# Altium footprint library Lib Marius.PcbLib: 393 footprints (part 4 of 25)
Each footprint in its own frame and in the unit in brackets; x right, y up, seen from the top. Pads: shape width x height; smd on the part's side, far side on the other; paste and mask are expansions set on the pad; w line width, h text height; cw(c..) or ccw(c..) is an arc to the next point about the centre after c.
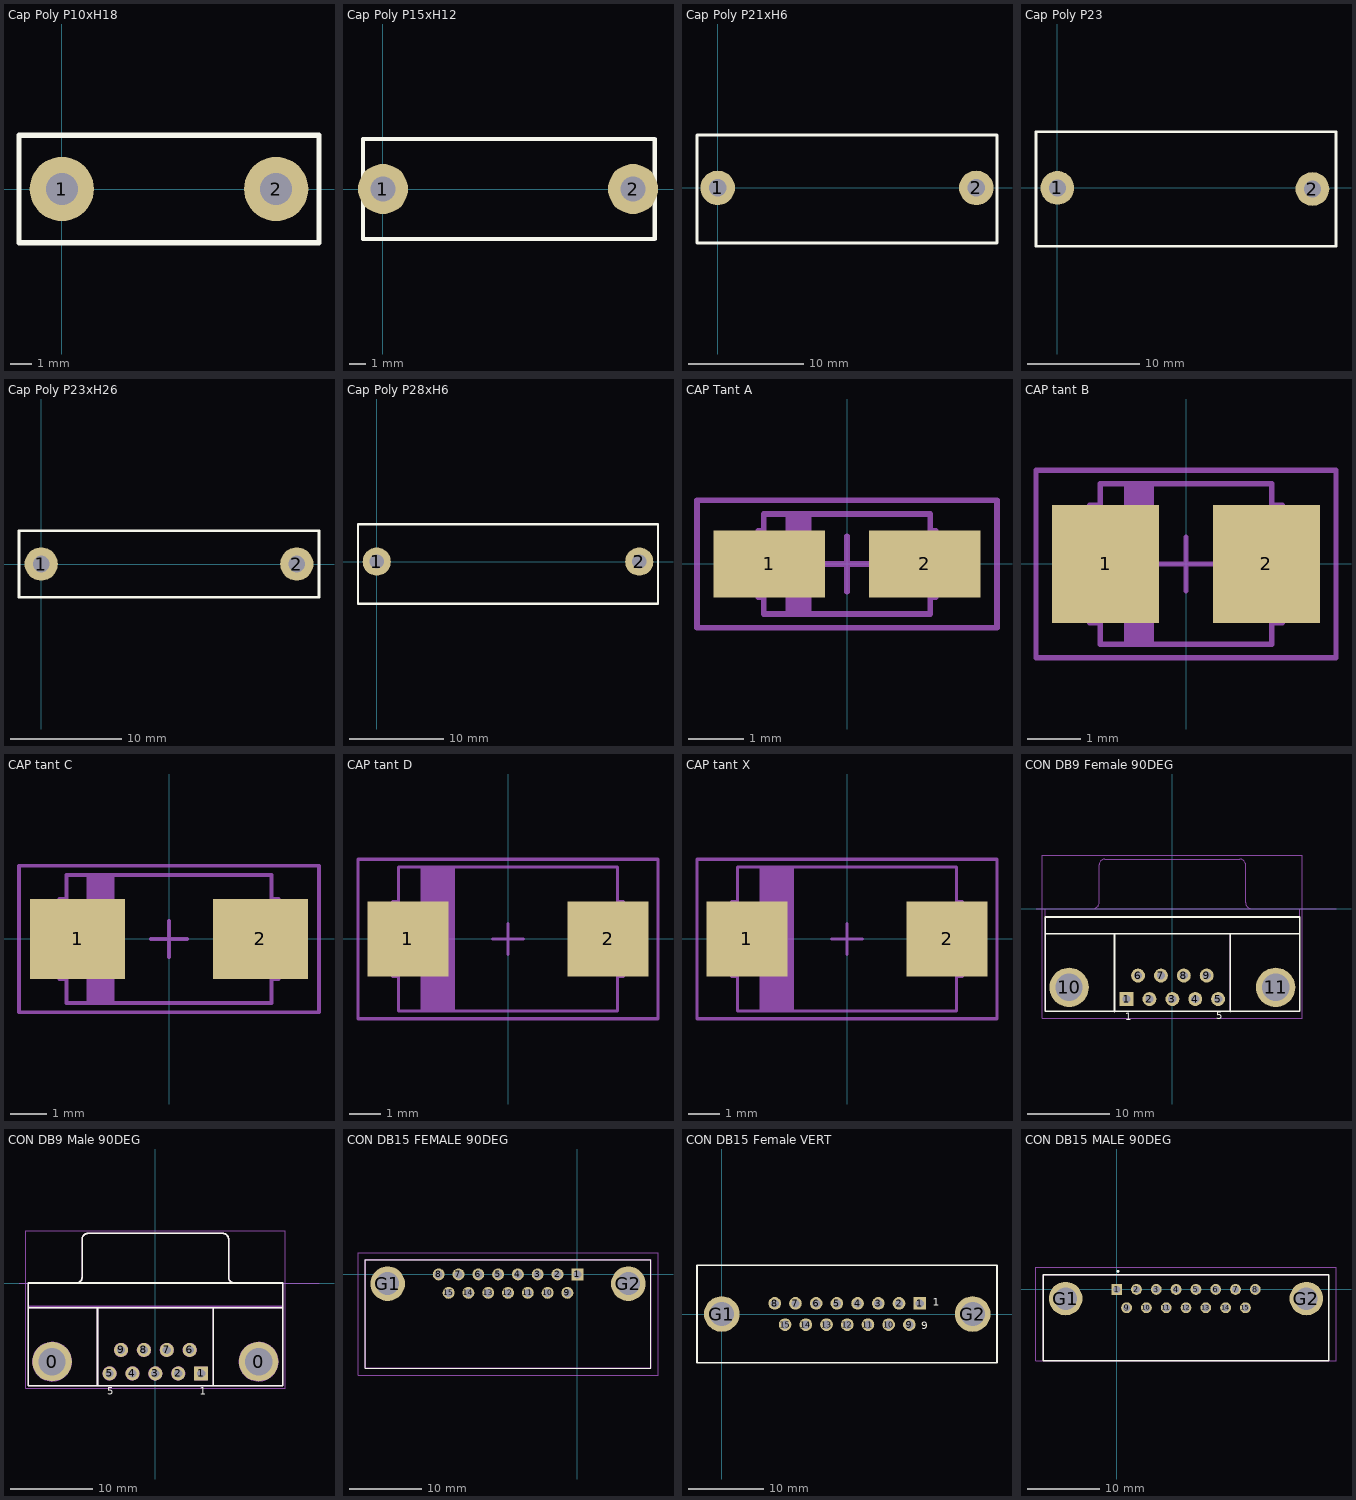
[diagram p3: the footprints below, top view; thin cyan lines are the x and y axes]

## Cap Poly P10xH18 [mm] "Capacitor Polyester"
height 5.46
pads (2):
  round 3 hole 1.5: 1(0,0) 2(10,0)
Top Overlay:
  lines w0.254: -2,-2.5 -2,2.5 12,2.5 12,-2.5 -2,-2.5
3D body "Cap Poly 14Lx9H.step": height 11.92, standoff -2, extent -1.375,-2.7 11.375,2.051

## Cap Poly P15xH12 [mm] "Capacitor Polyester 1uF 250V"
height 12
pads (2):
  round 3 hole 1.5: 1(0,0) 2(15,0)
Top Overlay:
  lines w0.254: -1.2,-3 16.3,-3 16.3,3 -1.2,3 -1.2,-3

## Cap Poly P21xH6 [mm] "Capacitor Polyester 1uF 250V"
height 6
pads (2):
  round 3 hole 1.5: 1(0,0) 2(22.5,0)
Top Overlay:
  lines w0.254: 24.3,3 24.3,-3 24.3,-4.8 -1.8,-4.8 -1.8,4.6 24.3,4.6 24.3,3.1
3D body "Cap Ceramic 0.47uf 250Vac.STEP": height 20.5, standoff -3, extent -1.8,-4.7 24.2,4.6

## Cap Poly P23 [mm] "Capacitor Polyester"
height 6
pads (2):
  round 3 hole 1.5: 1(0,0) 2(22.7,-0.1)
Top Overlay:
  lines w0.254: -1.9,-5.2 -1.9,5 24.8,5 24.8,-5.2 -1.9,-5.2
3D body "Cap Poly P27.STEP": height 20.5, standoff -7, extent -1.75,-5.1 24.75,4.9

## Cap Poly P23xH26 [mm] "Capacitor Polyester"
height 5.46
pads (2):
  round 3 hole 1.5: 1(0,0) 2(23,0)
Top Overlay:
  lines w0.254: -2,-3 -2,3 25,3 25,-3 -2,-3
3D body "Cap Poly 18Lx12H.step": height 12.92, standoff -1, extent -0.445,-2.875 23.305,2.876

## Cap Poly P28xH6 [mm] "Capacitor Polyester"
height 6
pads (2):
  round 3 hole 1.5: 1(0,0) 2(28,0)
Top Overlay:
  lines w0.254: -2,-4.5 -2,4 30,4 30,-4.5 -2,-4.5
3D body "Cap Poly 28Lx14H.step": height 19.03, standoff 0.03, extent -0.261,-3.9 28.399,3.5

## CAP Tant A [mm] "Molded Capacitor, 2-Leads, Body 3.2x1.6mm, IPC Medium Density"
height 1.8
pads (2):
  rect 2x1.2 smd: 1(-1.4,0) 2(1.4,0)
Mechanical 13:
  region: -0.643,0.9 -1.1,0.9 -1.1,-0.9 -0.643,-0.9
  lines w0.1: -1.5,-0.6 -1.6,-0.6 -1.6,-0.3 -1.5,-0.3 ; -1.5,0.3 -1.6,0.3 -1.6,0.6 -1.5,0.6 ; 1.5,-0.6 1.6,-0.6 1.6,0.6 1.5,0.6 ; -1.5,-0.9 -1.5,0.9 1.5,0.9 1.5,-0.9 -1.5,-0.9
  text ".Designator" at -0.4,-0.4 h0.8
Mechanical 15:
  lines w0.1: -0.5,0 0.5,0 ; 0,-0.5 0,0.5 ; -2.7,-1.15 -2.7,1.15 2.7,1.15 2.7,-1.15 -2.7,-1.15
3D body "SW3dPS-cap_a.STEP": height 1.61, standoff 0, extent -1.595,-0.8 1.595,0.8

## CAP tant B [mm] "Molded Capacitor, 2-Leads, Body 3.5x2.8mm, IPC Medium Density"
height 2.1
pads (2):
  rect 2x2.2 smd: 1(-1.5,0) 2(1.5,0)
Mechanical 13:
  region: -0.6,1.5 -0.6,-1.5 -1.15,-1.5 -1.15,1.5
  lines w0.1: -1.6,-1.1 -1.8,-1.1 -1.8,-0.3 -1.6,-0.3 ; -1.6,0.3 -1.8,0.3 -1.8,1.1 -1.6,1.1 ; 1.6,-1.1 1.8,-1.1 1.8,1.1 1.6,1.1 ; -1.6,-1.5 -1.6,1.5 1.6,1.5 1.6,-1.5 -1.6,-1.5
  text ".Designator" at -0.4,-0.4 h0.8
Mechanical 15:
  lines w0.1: -0.5,0 0.5,0 ; 0,-0.5 0,0.5 ; -2.8,-1.75 -2.8,1.75 2.8,1.75 2.8,-1.75 -2.8,-1.75
3D body "SW3dPS-cap_b.STEP": height 1.91, standoff 0, extent -1.746,-1.4 1.746,1.4

## CAP tant C [mm] "Molded Capacitor, 2-Leads, Body 6.0x3.2mm, IPC Medium Density"
height 2.8
pads (2):
  rect 2.6x2.2 smd: 1(-2.5,0) 2(2.5,0)
Mechanical 13:
  region: -1.5,1.75 -1.5,-1.75 -2.25,-1.75 -2.25,1.75
  lines w0.1: -2.8,-1.1 -3,-1.1 -3,-0.3 -2.8,-0.3 ; -2.8,0.3 -3,0.3 -3,1.1 -2.8,1.1 ; 2.8,-1.1 3,-1.1 3,1.1 2.8,1.1 ; -2.8,-1.75 2.8,-1.75 2.8,1.75 -2.8,1.75 -2.8,-1.75
  text ".Designator" at -1.2,-0.4 h0.8
Mechanical 15:
  lines w0.1: -0.5,0 0.5,0 ; 0,-0.5 0,0.5 ; -4.1,-2 4.1,-2 4.1,2 -4.1,2 -4.1,-2
3D body "SW3dPS-cap_c.STEP": height 2.51, standoff 0, extent -2.997,-1.6 2.997,1.6

## CAP tant D [mm] "Molded Capacitor, 2-Leads, Body 7.3x4.3mm, IPC Medium Density"
height 3.1
pads (2):
  rect 2.6x2.4 smd: 1(-3.2,0) 2(3.2,0)
Mechanical 13:
  region: -1.7,2.3 -1.7,-2.3 -2.8,-2.3 -2.8,2.3
  lines w0.1: -3.5,-1.2 -3.7,-1.2 -3.7,-0.3 -3.5,-0.3 ; -3.5,0.3 -3.7,0.3 -3.7,1.2 -3.5,1.2 ; 3.5,-1.2 3.7,-1.2 3.7,1.2 3.5,1.2 ; -3.5,-2.3 -3.5,2.3 3.5,2.3 3.5,-2.3 -3.5,-2.3
  text ".Designator" at -1.5,-0.4 h0.8
Mechanical 15:
  lines w0.1: -0.5,0 0.5,0 ; 0,-0.5 0,0.5 ; -4.8,-2.55 -4.8,2.55 4.8,2.55 4.8,-2.55 -4.8,-2.55
3D body "SW3dPS-cap_d.STEP": height 2.81, standoff 0, extent -3.647,-2.15 3.647,2.15

## CAP tant X [mm] "Molded Capacitor, 2-Leads, Body 7.3x4.3mm, IPC Medium Density Case E"
height 4.1
pads (2):
  rect 2.6x2.4 smd: 1(-3.2,0) 2(3.2,0)
Mechanical 13:
  region: -1.7,2.3 -1.7,-2.3 -2.8,-2.3 -2.8,2.3
  lines w0.1: -3.5,-1.2 -3.7,-1.2 -3.7,-0.3 -3.5,-0.3 ; -3.5,0.3 -3.7,0.3 -3.7,1.2 -3.5,1.2 ; 3.5,-1.2 3.7,-1.2 3.7,1.2 3.5,1.2 ; -3.5,-2.3 -3.5,2.3 3.5,2.3 3.5,-2.3 -3.5,-2.3
  text ".Designator" at -1.5,-0.4 h0.8
Mechanical 15:
  lines w0.1: -0.5,0 0.5,0 ; 0,-0.5 0,0.5 ; -4.8,-2.55 -4.8,2.55 4.8,2.55 4.8,-2.55 -4.8,-2.55
3D body "SW3dPS-cap_e.STEP": height 4.11, standoff 0, extent -3.647,-2.15 3.647,2.15

## CON DB9 Female 90DEG [mm] "Connector, Dsub, 9-pin, Female"
height 12
pads (11):
  rect 1.69x1.69 hole 1: 1(-5.54,-10.94)
  round 1.69 hole 1: 2(-2.77,-10.94) 3(0,-10.94) 4(2.77,-10.94) 5(5.54,-10.94) 6(-4.155,-8.1) 7(-1.385,-8.1) 8(1.385,-8.1) 9(4.155,-8.1)
  round 4.76 hole 3.3: 10(-12.495,-9.52) 11(12.495,-9.52)
Top Overlay:
  lines w0.2: -15.4,-3.016 15.4,-3.016 ; -7,-12.44 -7,-3.016 ; 7,-12.44 7,-3.016 ; -15.4,-12.42 -15.4,-1 15.4,-1 15.4,-12.42 -15.4,-12.42
  text "1" at -5.7,-13.8 h1.5
  text "5" at 5.3,-13.7 h1.5
  text ".Designator" at -7.4,-16.4 h1.5
Mechanical 1:
  lines w0.1: -16.5,0 19.8,0
  text "PCB Edge" at 15.9,0.2 h1
Mechanical 13:
  lines w0.1: -15.4,-2.996 15.4,-2.996 ; -9.56,0.009 ccw(c-9.56,0.704) -8.865,0.704 -8.865,5.304 ; -8.86,5.309 cw(c-8.165,5.309) -8.165,6.004 8.165,6.004 cw(c8.165,5.309) 8.86,5.309 ; -7,-12.42 -7,-2.996 ; -0.04,0 0,0 ; 7,-12.42 7,-2.996 ; 8.865,5.304 8.865,0.704 ccw(c9.56,0.704) 9.56,0.009 ; -15.4,-12.42 15.4,-12.42 15.4,0 -15.4,0 -15.4,-12.42
Mechanical 15:
  lines w0.1: -15.72,-13.265 15.7,-13.265 15.7,6.46 -15.72,6.46 -15.72,-13.265
3D body "SW3dPS-9-PIN_DSUB-1.STEP": height 12.56, standoff -3.16, extent -15.395,-12.965 15.415,6.11

## CON DB9 Male 90DEG [mm] "Connector, Dsub, 9-pin, Male"
height 12
pads (11):
  round 4.76 hole 3.3: 0(-12.495,-9.52) 0(12.495,-9.52)
  rect 1.69x1.69 hole 1: 1(5.54,-10.94)
  round 1.69 hole 1: 2(2.77,-10.94) 3(0,-10.94) 4(-2.77,-10.94) 5(-5.54,-10.94) 6(4.155,-8.1) 7(1.385,-8.1) 8(-1.385,-8.1) 9(-4.155,-8.1)
Top Overlay:
  lines w0.2: -15.4,-2.996 15.4,-2.996 ; -9.56,0.009 ccw(c-9.56,0.704) -8.865,0.704 -8.865,5.304 ; -8.86,5.309 cw(c-8.165,5.309) -8.165,6.004 8.165,6.004 cw(c8.165,5.309) 8.86,5.309 ; -7,-12.42 -7,-2.996 ; 7,-12.42 7,-2.996 ; 8.865,5.304 8.865,0.704 ccw(c9.56,0.704) 9.56,0.009 ; -15.4,-12.42 15.4,-12.42 15.4,0 -15.4,0 -15.4,-12.42
  text "5" at -5.8,-13.8 h1.5
  text "1" at 5.4,-13.8 h1.5
  text ".Designator" at -7,-16.1 h1.5
Mechanical 1:
  lines w0.1: -16.5,0 19.8,0 ; -0.045,0 0,0
  text "PCB Edge" at 15.9,0.2 h1
Mechanical 7:
  circle w0.2: c2.77,-10.94 r0.773
  circle w0.2: c0,-10.94 r0.773
  circle w0.2: c-2.77,-10.94 r0.773
  circle w0.2: c-5.54,-10.94 r0.773
  circle w0.2: c-4.155,-8.1 r0.773
  circle w0.2: c-1.385,-8.1 r0.773
  circle w0.2: c1.385,-8.1 r0.773
  circle w0.2: c4.155,-8.1 r0.773
  circle w0.2: c12.495,-9.52 r2.327
  circle w0.2: c-12.495,-9.52 r2.327
  lines w0.2: -15.4,-2.796 15.4,-2.796 ; -9.56,0.009 ccw(c-9.56,0.704) -8.865,0.704 -8.865,5.304 ; -8.86,5.309 cw(c-8.165,5.309) -8.165,6.004 8.165,6.004 cw(c8.165,5.309) 8.86,5.309 ; -7,-12.42 -7,-2.796 ; 7,-12.42 7,-2.796 ; 8.865,5.304 8.865,0.704 ccw(c9.56,0.704) 9.56,0.009 ; -15.4,-12.42 15.4,-12.42 15.4,0 -15.4,0 -15.4,-12.42 ; 4.79,-11.69 6.29,-11.69 6.29,-10.19 4.79,-10.19 4.79,-10.94 4.79,-11.69
Mechanical 13:
  lines w0.1: -15.4,-2.996 15.4,-2.996 ; -9.56,0.009 ccw(c-9.56,0.704) -8.865,0.704 -8.865,5.304 ; -8.86,5.309 cw(c-8.165,5.309) -8.165,6.004 8.165,6.004 cw(c8.165,5.309) 8.86,5.309 ; -7,-12.42 -7,-2.996 ; 7,-12.42 7,-2.996 ; 8.865,5.304 8.865,0.704 ccw(c9.56,0.704) 9.56,0.009 ; -15.4,-12.42 -15.4,0 15.4,0 15.4,-12.42 -15.4,-12.42
Mechanical 15:
  lines w0.1: -15.7,-12.728 -15.7,6.304 15.7,6.304 15.7,-12.728 -15.7,-12.728
3D body "SW3dPS-9-PIN_DSUB.STEP": height 12.56, standoff -3.16, extent -15.393,-12.985 15.493,6.7

## CON DB15 FEMALE 90DEG [mm]
pads (17):
  rect 1.65x1.65 hole 1.1: 1(0,0)
  round 1.65 hole 1.1: 2(-2.74,0) 3(-5.48,0) 4(-8.22,0) 5(-10.96,0) 6(-13.7,0) 7(-16.44,0) 8(-19.18,0) 9(-1.37,-2.54) 10(-4.11,-2.54) 11(-6.85,-2.54) 12(-9.59,-2.54) 13(-12.33,-2.54) 14(-15.07,-2.54) 15(-17.81,-2.54)
  round 4.8 hole 3.2: G1(-26.24,-1.27) G2(7.06,-1.27)
Top Overlay:
  lines w0.1: -29.34,-12.97 -29.34,2.03 10.16,2.03 10.16,-12.97 -29.34,-12.97
Mechanical 13:
  lines w0.2: -29.34,-12.97 -29.34,2.03 10.16,2.03 10.16,-12.97 -29.34,-12.97
Mechanical 15:
  lines w0.1: -30.34,-13.97 -30.34,3.03 11.16,3.03 11.16,-13.97 -30.34,-13.97
3D body "09662527611.stp": height 13.7, standoff -3.1, extent -29.34,-19.11 10.16,2.09

## CON DB15 Female VERT [mm] "Connectror; 2 Rows; 15 Position; Right Angle; Pitch 2.77 mm"
height 12.93
pads (17):
  rect 1.69x1.69 hole 1.09: 1(26.387,1.42)
  round 1.69 hole 1.09: 2(23.626,1.42) 3(20.865,1.42) 4(18.104,1.42) 5(15.343,1.42) 6(12.582,1.42) 7(9.821,1.42) 8(7.06,1.42) 9(25.007,-1.42) 10(22.246,-1.42) 11(19.485,-1.42) 12(16.724,-1.42) 13(13.963,-1.42) 14(11.202,-1.42) 15(8.441,-1.42)
  round 4.76 hole 3.26: G1(0,0) G2(33.447,0)
Top Overlay:
  lines w0.2: -3.303,-6.5 36.689,-6.5 36.689,6.504 -3.303,6.504 -3.303,-6.5
  text "1" at 28.112,1.096 h1
  text "9" at 26.577,-2.015 h1
Bottom Overlay:
  text "9" at 27.257,-1.99 h1
  text "1" at 28.423,1.084 h1
3D body "Con DB15 Dual Female.stp": height 12, standoff -3.36, extent -2.833,-6.278 36.384,6.32

## CON DB15 MALE 90DEG [mm]
pads (17):
  rect 1.5x1.5 hole 1: 1(0,0)
  round 1.5 hole 1: 2(2.74,0) 3(5.48,0) 4(8.22,0) 5(10.96,0) 6(13.7,0) 7(16.44,0) 8(19.18,0) 9(1.37,-2.54) 10(4.11,-2.54) 11(6.85,-2.54) 12(9.59,-2.54) 13(12.33,-2.54) 14(15.07,-2.54) 15(17.81,-2.54)
  round 4.65 hole 3.1: G1(-7.06,-1.27) G2(26.24,-1.27)
Top Overlay:
  lines w0.2: -10.16,-9.84 -10.16,2.03 29.34,2.03 29.34,-9.84 -10.16,-9.84 ; 0.1,2.5 cw(c0.2,2.5) 0.3,2.5 cw(c0.2,2.5) 0.1,2.5
Mechanical 13:
  lines w0.1: -10.16,-9.84 -10.16,2.03 29.34,2.03 29.34,-9.84 -10.16,-9.84
Mechanical 15:
  lines w0.1: -11.16,-9.84 -11.16,3.03 30.34,3.03 30.34,-9.84 -11.16,-9.84
3D body "09662626816.stp": height 9.7, standoff -3.2, extent -9.99,-18.161 29.21,2.039